# Altium footprint library BOURNS_PVG3A103C01R00.PcbLib: 1 footprints
Each footprint in its own frame and in the unit in brackets; x right, y up, seen from the top. Pads: shape width x height; smd on the part's side, far side on the other; paste and mask are expansions set on the pad; w line width, h text height; cw(c..) or ccw(c..) is an arc to the next point about the centre after c.
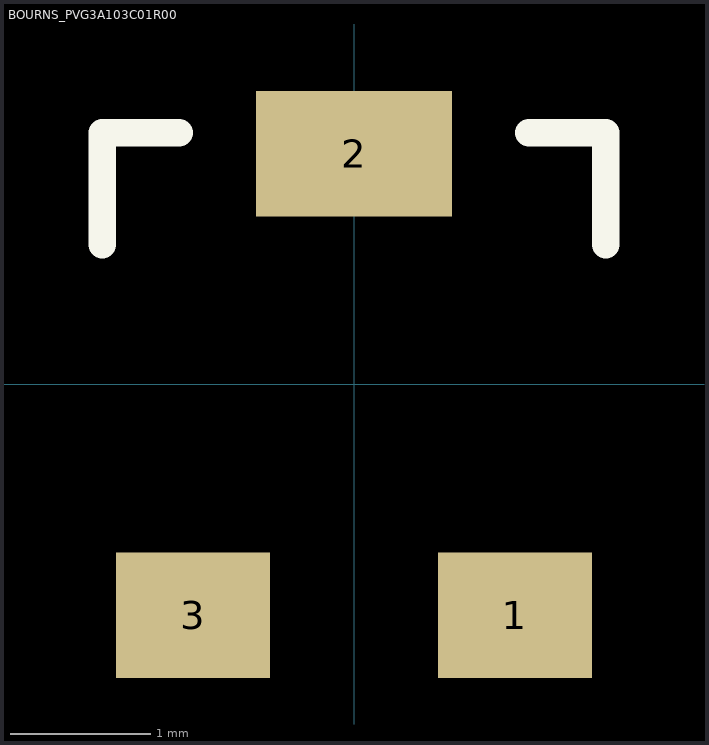
[diagram p0: the footprint, top view; thin cyan lines are the x and y axes]

## BOURNS_PVG3A103C01R00 [mm] "Potenetiometer, Bourns PBG3A series"
pads (3):
  rect 1.1x0.9 smd: 1(1.15,-1.65) 3(-1.15,-1.65)
  rect 1.4x0.9 smd: 2(0,1.65)
Top Overlay:
  lines w0.2: -1.8,1 -1.8,1.8 -1.25,1.8 ; 1.25,1.8 1.8,1.8 1.8,1
3D body "BOURNS_PVG3A103C01R00.step": height 2.06, standoff 0, extent -1.803,-1.803 1.803,1.803